# EAGLE library part CON_HEADER_1X06 (library dp_devices)
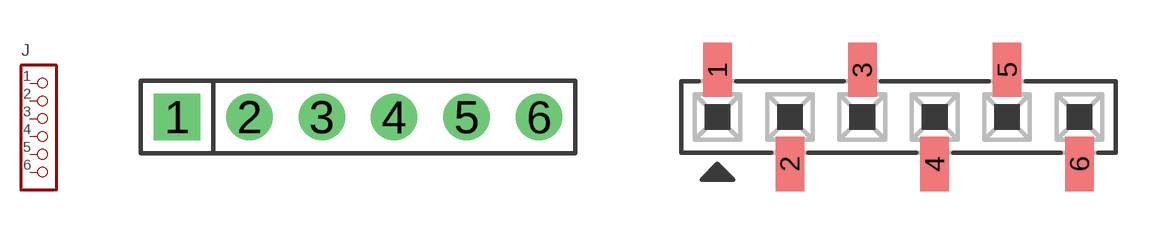
[diagram p8: symbol with the pads of M1X6; footprints M1X6, M1X6_SMD]

Designator prefix J

## CON_HEADER_1X06-PTH  [M1X6]
1  1
2  2
3  3  pas
4  4  pas
5  5  pas
6  6  pas

## CON_HEADER_1X06-SMD  [M1X6_SMD]
Pads as for M1X6

## CON_HEADER_1X06-PTH-RIGHT-ANGLED  [M1X6_MALE_RIGHT_ANGLED]
Pads as for M1X6

## CON_HEADER_1X06-SMD-RIGHT-ANGLED  [M1X6_MALE_RIGHT_ANGLED_SMD]
Pads as for M1X6

## Footprint M1X6 (pad centres in mm)
drill 1.02 pad 1.632 square: 1 0,0
drill 1.02 pad 1.632: 2 2.54,0; 3 5.08,0; 4 7.62,0; 5 10.16,0; 6 12.7,0

## Footprint M1X6_SMD (pad centres in mm)
1x06 0.1" header SMD, 1.00 x 1.90 pad size Mfr no: NPTC061KFXC-RC NPTC061KFXC-RC <http://www.digikey.com/product-detail/en/NPTC061KFXC-RC/S5598-ND/776056>
smd 1 x 1.9: 1 -6.35,1.65; 2 -3.81,-1.65; 3 -1.27,1.65; 4 1.27,-1.65; 5 3.81,1.65; 6 6.35,-1.65

## Footprint M1X6_MALE_RIGHT_ANGLED (pad centres in mm)
1x06 Right angled male header PTH Mfr no: 22-28-8060 22-28-8060 <http://www.digikey.com/scripts/dksearch/dksus.dll?vendor=0&keywords=22288060>
drill 1.02 pad 1.632 square: 1 -6.35,-2.925
drill 1.02 pad 1.632: 2 -3.81,-2.925; 3 -1.27,-2.925; 4 1.27,-2.925; 5 3.81,-2.925; 6 6.35,-2.925

## Footprint M1X6_MALE_RIGHT_ANGLED_SMD (pad centres in mm)
1x06 Right angled male header SMD Mfr no: 961106-5500 961106-5500 <http://www.digikey.com/product-detail/en/961106-5500-AR-PR/3M9501TR-ND/2071542>
smd 1.3 x 2.8: 1 -6.35,-3.3; 2 -3.81,-3.3; 3 -1.27,-3.3; 4 1.27,-3.3; 5 3.81,-3.3; 6 6.35,-3.3